# Altium footprint library Power Management Linear Regulator.PcbLib: 77 footprints (part 2 of 5)
Each footprint in its own frame and in the unit in brackets; x right, y up, seen from the top. Pads: shape width x height; smd on the part's side, far side on the other; paste and mask are expansions set on the pad; w line width, h text height; cw(c..) or ccw(c..) is an arc to the next point about the centre after c.
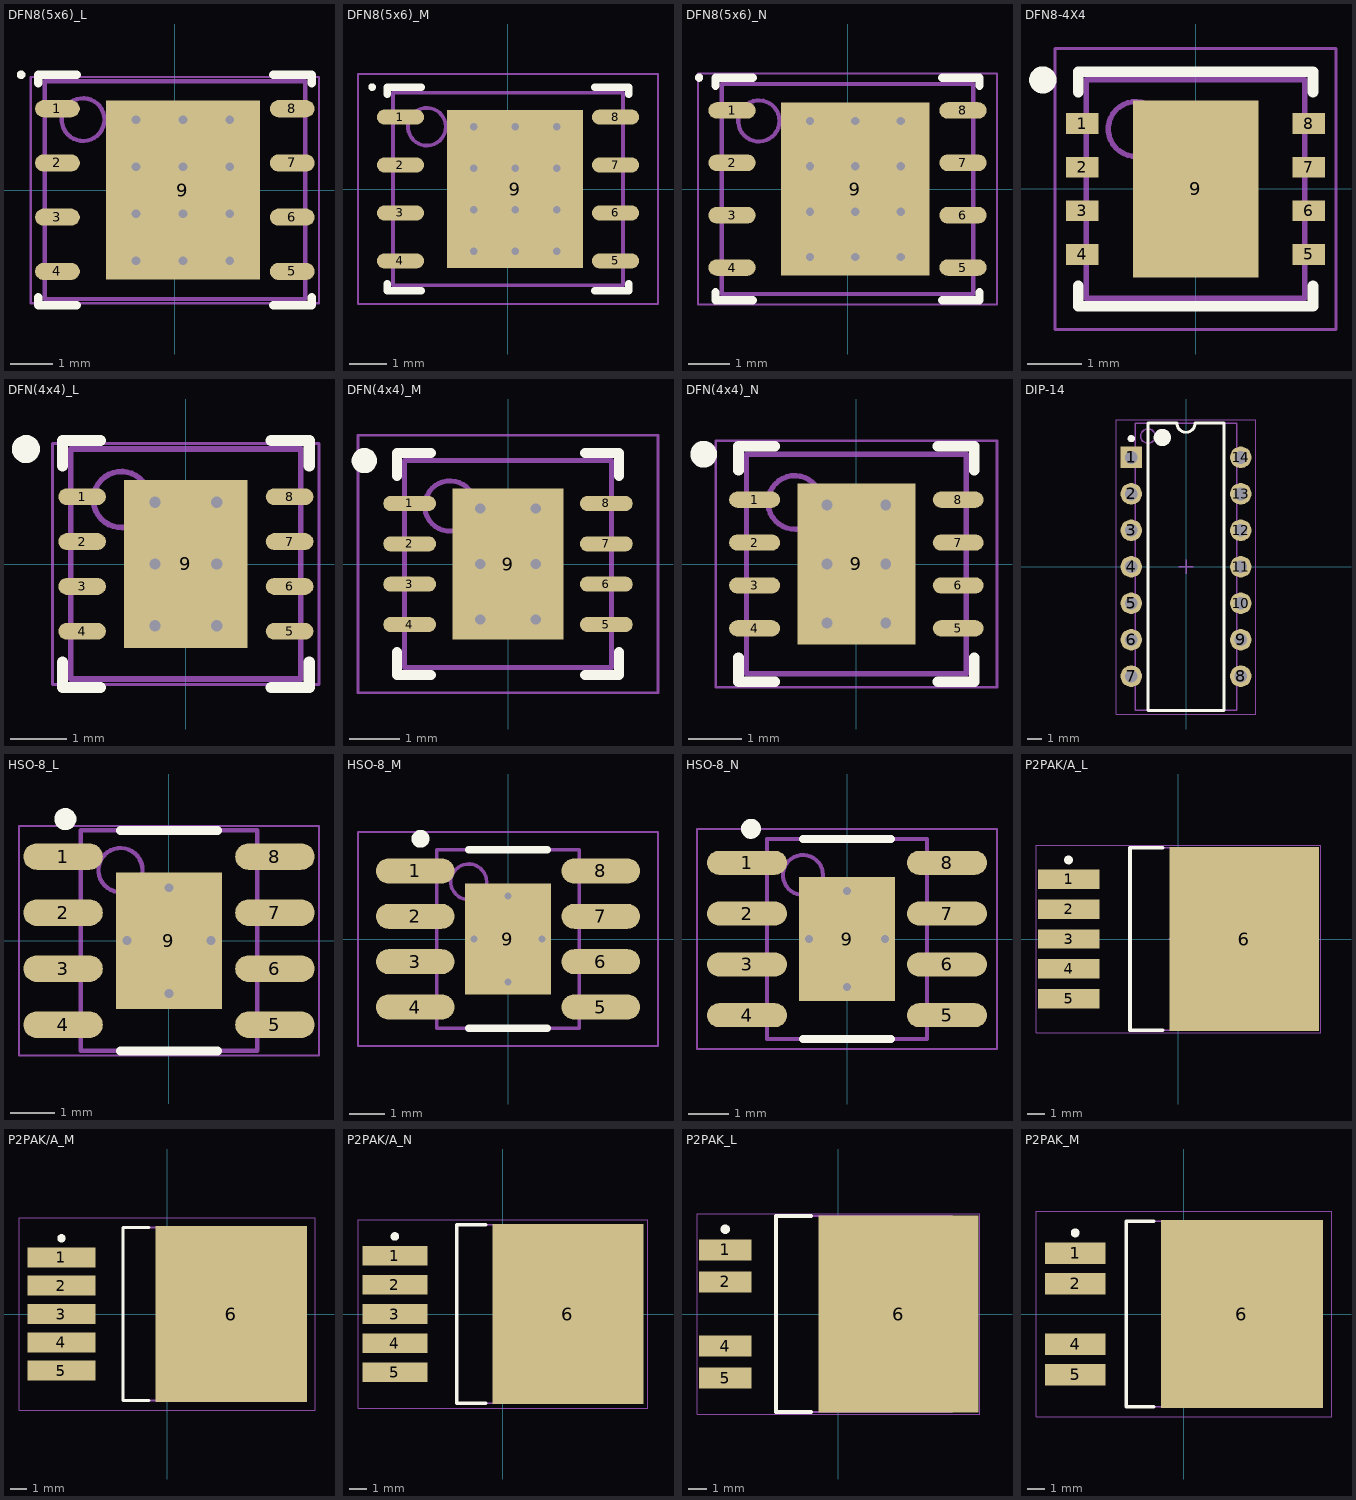
[diagram p1: the footprints below, top view; thin cyan lines are the x and y axes]

## DFN8(5x6)_L [mm] "SON, 8-Leads, Body 5x6mm, Pitch 1.27mm, Thermal Pad 4.2x3.6mm, IPC High Density"
height 1
pads (9):
  oval 1.05x0.4 smd: 1(-2.75,1.905) 2(-2.75,0.635) 3(-2.75,-0.635) 4(-2.75,-1.905) 5(2.75,-1.905) 6(2.75,-0.635) 7(2.75,0.635) 8(2.75,1.905)
  rect 3.6x4.2 smd: 9(0.19,0)
via -0.91,1.65 diameter 0.5 hole 0.2
via 0.19,1.65 diameter 0.5 hole 0.2
via 1.29,1.65 diameter 0.5 hole 0.2
via -0.91,0.55 diameter 0.5 hole 0.2
via 0.19,0.55 diameter 0.5 hole 0.2
via 1.29,0.55 diameter 0.5 hole 0.2
via -0.91,-0.55 diameter 0.5 hole 0.2
via 0.19,-0.55 diameter 0.5 hole 0.2
via 1.29,-0.55 diameter 0.5 hole 0.2
via -0.91,-1.65 diameter 0.5 hole 0.2
via 0.19,-1.65 diameter 0.5 hole 0.2
via 1.29,-1.65 diameter 0.5 hole 0.2
Top Overlay:
  circle w0.1: c-3.6,2.7 r0.05
  lines w0.2: -3.2,-2.505 -3.2,-2.7 -2.3,-2.7 ; -3.2,2.505 -3.2,2.7 -2.3,2.7 ; 2.3,-2.7 3.2,-2.7 3.2,-2.505 ; 2.3,2.7 3.2,2.7 3.2,2.505
Mechanical 13:
  circle w0.1: c-2.15,1.65 r0.5
  lines w0.1: -3.05,-2.55 -3.05,2.55 3.05,2.55 3.05,-2.55 -3.05,-2.55
Mechanical 15:
  lines w0.05: -3.375,-2.65 -3.375,2.65 3.375,2.65 3.375,-2.65 -3.375,-2.65
  lines w0.1: -0.5,0 0.5,0 ; 0,-0.5 0,0.5
3D body: height 1, standoff 0, extent -3.05,-2.55 3.05,2.55

## DFN8(5x6)_M [mm] "SON, 8-Leads, Body 5x6mm, Pitch 1.27mm, Thermal Pad 4.2x3.6mm, IPC Low Density"
height 1
pads (9):
  oval 1.25x0.4 smd: 1(-2.85,1.905) 2(-2.85,0.635) 3(-2.85,-0.635) 4(-2.85,-1.905) 5(2.85,-1.905) 6(2.85,-0.635) 7(2.85,0.635) 8(2.85,1.905)
  rect 3.6x4.2 smd: 9(0.19,0)
via -0.91,1.65 diameter 0.5 hole 0.2
via 0.19,1.65 diameter 0.5 hole 0.2
via 1.29,1.65 diameter 0.5 hole 0.2
via -0.91,0.55 diameter 0.5 hole 0.2
via 0.19,0.55 diameter 0.5 hole 0.2
via 1.29,0.55 diameter 0.5 hole 0.2
via -0.91,-0.55 diameter 0.5 hole 0.2
via 0.19,-0.55 diameter 0.5 hole 0.2
via 1.29,-0.55 diameter 0.5 hole 0.2
via -0.91,-1.65 diameter 0.5 hole 0.2
via 0.19,-1.65 diameter 0.5 hole 0.2
via 1.29,-1.65 diameter 0.5 hole 0.2
Top Overlay:
  circle w0.1: c-3.6,2.7 r0.05
  lines w0.2: -3.2,-2.505 -3.2,-2.7 -2.3,-2.7 ; -3.2,2.505 -3.2,2.7 -2.3,2.7 ; 2.3,-2.7 3.2,-2.7 3.2,-2.505 ; 2.3,2.7 3.2,2.7 3.2,2.505
Mechanical 13:
  circle w0.1: c-2.15,1.65 r0.5
  lines w0.1: -3.05,-2.55 -3.05,2.55 3.05,2.55 3.05,-2.55 -3.05,-2.55
Mechanical 15:
  lines w0.05: -3.975,-3.05 -3.975,3.05 3.975,3.05 3.975,-3.05 -3.975,-3.05
  lines w0.1: -0.5,0 0.5,0 ; 0,-0.5 0,0.5
3D body: height 1, standoff 0, extent -3.05,-2.55 3.05,2.55

## DFN8(5x6)_N [mm] "SON, 8-Leads, Body 5x6mm, Pitch 1.27mm, Thermal Pad 4.2x3.6mm, IPC Medium Density"
height 1
pads (9):
  oval 1.15x0.4 smd: 1(-2.8,1.905) 2(-2.8,0.635) 3(-2.8,-0.635) 4(-2.8,-1.905) 5(2.8,-1.905) 6(2.8,-0.635) 7(2.8,0.635) 8(2.8,1.905)
  rect 3.6x4.2 smd: 9(0.19,0)
via 1.29,-1.65 diameter 0.5 hole 0.2
via 0.19,-1.65 diameter 0.5 hole 0.2
via -0.91,-1.65 diameter 0.5 hole 0.2
via 1.29,-0.55 diameter 0.5 hole 0.2
via 0.19,-0.55 diameter 0.5 hole 0.2
via -0.91,-0.55 diameter 0.5 hole 0.2
via 1.29,0.55 diameter 0.5 hole 0.2
via 0.19,0.55 diameter 0.5 hole 0.2
via -0.91,0.55 diameter 0.5 hole 0.2
via 1.29,1.65 diameter 0.5 hole 0.2
via 0.19,1.65 diameter 0.5 hole 0.2
via -0.91,1.65 diameter 0.5 hole 0.2
Top Overlay:
  circle w0.1: c-3.6,2.7 r0.05
  lines w0.2: -3.2,-2.505 -3.2,-2.7 -2.3,-2.7 ; -3.2,2.505 -3.2,2.7 -2.3,2.7 ; 2.3,-2.7 3.2,-2.7 3.2,-2.505 ; 2.3,2.7 3.2,2.7 3.2,2.505
Mechanical 13:
  circle w0.1: c-2.15,1.65 r0.5
  lines w0.1: -3.05,-2.55 3.05,-2.55 3.05,2.55 -3.05,2.55 -3.05,-2.55
Mechanical 15:
  lines w0.05: -3.625,-2.8 3.625,-2.8 3.625,2.8 -3.625,2.8 -3.625,-2.8
  lines w0.1: -0.5,0 0.5,0 ; 0,-0.5 0,0.5
3D body: height 1, standoff 0, extent -3.05,-2.55 3.05,2.55

## DFN8-4X4 [mm] "DFN, 8-Leads, Body 4.00x4.00mm, Pitch 0.80mm, Thermal Pad 2.30x3.24mm, IPC Medium Density"
height 1
pads (9):
  rect 0.6x0.38 smd: 1(-2.075,1.2) 2(-2.075,0.4) 3(-2.075,-0.4) 4(-2.075,-1.2) 5(2.075,-1.2) 6(2.075,-0.4) 7(2.075,0.4) 8(2.075,1.2)
  rect 2.3x3.24 smd: 9(0,0)
Top Overlay:
  circle w0.25: c-2.8,2 r0.125
  lines w0.2: -2.15,-1.775 -2.15,-2.15 2.15,-2.15 2.15,-1.775 ; -2.15,1.775 -2.15,2.15 2.15,2.15 2.15,1.775
Mechanical 13:
  circle w0.1: c-1.1,1.1 r0.5
  lines w0.1: -2,-2 -2,2 2,2 2,-2 -2,-2
Mechanical 15:
  lines w0.05: -2.575,-2.575 -2.575,2.575 2.575,2.575 2.575,-2.575 -2.575,-2.575
  lines w0.1: -0.5,0 0.5,0 ; 0,-0.5 0,0.5
3D body "DFN8-4X4.step": height 1, standoff 0, extent -2.001,-2 2.001,2

## DFN(4x4)_L [mm] "SON, 8-Leads, Body 4x4mm, Pitch 0.8mm, Thermal Pad 3x2.2mm, IPC High Density"
height 1
pads (9):
  oval 0.85x0.3 smd: 1(-1.85,1.2) 2(-1.85,0.4) 3(-1.85,-0.4) 4(-1.85,-1.2) 5(1.85,-1.2) 6(1.85,-0.4) 7(1.85,0.4) 8(1.85,1.2)
  rect 2.2x3 smd: 9(0,0)
via 0.55,-1.1 diameter 0.5 hole 0.2
via -0.55,-1.1 diameter 0.5 hole 0.2
via 0.55,0 diameter 0.5 hole 0.2
via -0.55,0 diameter 0.5 hole 0.2
via 0.55,1.1 diameter 0.5 hole 0.2
via -0.55,1.1 diameter 0.5 hole 0.2
Top Overlay:
  circle w0.25: c-2.85,2.05 r0.125
  lines w0.2: -2.2,-1.75 -2.2,-2.2 -1.525,-2.2 ; -2.2,1.75 -2.2,2.2 -1.525,2.2 ; 1.525,-2.2 2.2,-2.2 2.2,-1.75 ; 1.525,2.2 2.2,2.2 2.2,1.75
Mechanical 13:
  circle w0.1: c-1.15,1.15 r0.5
  lines w0.1: -2.05,-2.05 2.05,-2.05 2.05,2.05 -2.05,2.05 -2.05,-2.05
Mechanical 15:
  lines w0.05: -2.375,-2.15 2.375,-2.15 2.375,2.15 -2.375,2.15 -2.375,-2.15
  lines w0.1: -0.5,0 0.5,0 ; 0,-0.5 0,0.5
3D body: height 1, standoff 0, extent -2.05,-2.05 2.05,2.05

## DFN(4x4)_M [mm] "SON, 8-Leads, Body 4x4mm, Pitch 0.8mm, Thermal Pad 3x2.2mm, IPC Low Density"
height 1
pads (9):
  oval 1.05x0.3 smd: 1(-1.95,1.2) 2(-1.95,0.4) 3(-1.95,-0.4) 4(-1.95,-1.2) 5(1.95,-1.2) 6(1.95,-0.4) 7(1.95,0.4) 8(1.95,1.2)
  rect 2.2x3 smd: 9(0,0)
via -0.55,1.1 diameter 0.5 hole 0.2
via 0.55,1.1 diameter 0.5 hole 0.2
via -0.55,0 diameter 0.5 hole 0.2
via 0.55,0 diameter 0.5 hole 0.2
via -0.55,-1.1 diameter 0.5 hole 0.2
via 0.55,-1.1 diameter 0.5 hole 0.2
Top Overlay:
  circle w0.25: c-2.85,2.05 r0.125
  lines w0.2: -2.2,-1.75 -2.2,-2.2 -1.525,-2.2 ; -2.2,1.75 -2.2,2.2 -1.525,2.2 ; 1.525,-2.2 2.2,-2.2 2.2,-1.75 ; 1.525,2.2 2.2,2.2 2.2,1.75
Mechanical 13:
  circle w0.1: c-1.15,1.15 r0.5
  lines w0.1: -2.05,-2.05 -2.05,2.05 2.05,2.05 2.05,-2.05 -2.05,-2.05
Mechanical 15:
  lines w0.05: -2.975,-2.55 -2.975,2.55 2.975,2.55 2.975,-2.55 -2.975,-2.55
  lines w0.1: -0.5,0 0.5,0 ; 0,-0.5 0,0.5
3D body: height 1, standoff 0, extent -2.05,-2.05 2.05,2.05

## DFN(4x4)_N [mm] "SON, 8-Leads, Body 4x4mm, Pitch 0.8mm, Thermal Pad 3x2.2mm, IPC Medium Density"
height 1
pads (9):
  oval 0.95x0.3 smd: 1(-1.9,1.2) 2(-1.9,0.4) 3(-1.9,-0.4) 4(-1.9,-1.2) 5(1.9,-1.2) 6(1.9,-0.4) 7(1.9,0.4) 8(1.9,1.2)
  rect 2.2x3 smd: 9(0,0)
via -0.55,1.1 diameter 0.5 hole 0.2
via 0.55,1.1 diameter 0.5 hole 0.2
via -0.55,0 diameter 0.5 hole 0.2
via 0.55,0 diameter 0.5 hole 0.2
via -0.55,-1.1 diameter 0.5 hole 0.2
via 0.55,-1.1 diameter 0.5 hole 0.2
Top Overlay:
  circle w0.25: c-2.85,2.05 r0.125
  lines w0.2: -2.2,-1.75 -2.2,-2.2 -1.525,-2.2 ; -2.2,1.75 -2.2,2.2 -1.525,2.2 ; 1.525,-2.2 2.2,-2.2 2.2,-1.75 ; 1.525,2.2 2.2,2.2 2.2,1.75
Mechanical 13:
  circle w0.1: c-1.15,1.15 r0.5
  lines w0.1: -2.05,-2.05 -2.05,2.05 2.05,2.05 2.05,-2.05 -2.05,-2.05
Mechanical 15:
  lines w0.05: -2.625,-2.3 -2.625,2.3 2.625,2.3 2.625,-2.3 -2.625,-2.3
  lines w0.1: -0.5,0 0.5,0 ; 0,-0.5 0,0.5
3D body: height 1, standoff 0, extent -2.05,-2.05 2.05,2.05

## DIP-14 [mm] "DIP, 14-Leads, Row Spacing 7.62mm, Pitch 2.54mm, Body 19.6x6.6mm"
height 5.1
pads (14):
  rect 1.5x1.5 hole 0.9: 1(-3.81,7.62)
  round 1.5 hole 0.9: 2(-3.81,5.08) 3(-3.81,2.54) 4(-3.81,0) 5(-3.81,-2.54) 6(-3.81,-5.08) 7(-3.81,-7.62) 8(3.81,-7.62) 9(3.81,-5.08) 10(3.81,-2.54) 11(3.81,0) 12(3.81,2.54) 13(3.81,5.08) 14(3.81,7.62)
Top Overlay:
  circle w0.6: c-1.65,9 r0.3
  circle w0.25: c-3.81,8.92 r0.125
  lines w0.2: -2.65,-10 2.65,-10 2.65,10 0.635,10 cw(c0,10) -0.635,10 -2.65,10 -2.65,-10
Mechanical 13:
  circle w0.1: c-2.65,9.1 r0.5
  lines w0.1: -3.55,-10 3.55,-10 3.55,10 -3.55,10 -3.55,-10
Mechanical 15:
  lines w0.05: -4.85,-10.25 4.85,-10.25 4.85,10.25 -4.85,10.25 -4.85,-10.25
  lines w0.1: -0.5,0 0.5,0 ; 0,-0.5 0,0.5
3D body: height 5.1, standoff 0.51, extent -3.55,-10 3.55,10

## HSO-8_L [mm] "SOIC, 8-Leads, Body 4.9x3.9mm, Pitch 1.27mm, Thermal Pad, IPC High Density"
height 1.75
pads (9):
  oval 1.8x0.6 smd: 1(-2.4,1.905) 2(-2.4,0.635) 3(-2.4,-0.635) 4(-2.4,-1.905) 5(2.4,-1.905) 6(2.4,-0.635) 7(2.4,0.635) 8(2.4,1.905)
  rect 2.4x3.1 smd paste-1.2: 9(0,0)
via -0.95,0 diameter 0.5 hole 0.2
via 0,-1.2 diameter 0.5 hole 0.2
via 0,1.2 diameter 0.5 hole 0.2
via 0.95,0 diameter 0.5 hole 0.2
Top Overlay:
  circle w0.25: c-2.35,2.755 r0.125
  lines w0.2: -1.1,-2.5 1.1,-2.5 ; -1.1,2.5 1.1,2.5
Top Paste:
  rectangle: 0.1,-1.45 1.1,-0.1
  region: -0.1,-0.1 -1.1,-0.1 -1.1,-1.45 -0.1,-1.45
  region: -0.1,1.45 -1.1,1.45 -1.1,0.1 -0.1,0.1
  rectangle: 0.1,0.1 1.1,1.45
Mechanical 13:
  circle w0.1: c-1.1,1.6 r0.5
  lines w0.1: -2,-2.5 -2,2.5 2,2.5 2,-2.5 -2,-2.5
Mechanical 15:
  lines w0.05: -3.4,-2.6 -3.4,2.6 3.4,2.6 3.4,-2.6 -3.4,-2.6
  lines w0.1: -0.5,0 0.5,0 ; 0,-0.5 0,0.5
3D body: height 1.75, standoff 0, extent -2,-2.5 2,2.5

## HSO-8_M [mm] "SOIC, 8-Leads, Body 4.9x3.9mm, Pitch 1.27mm, Thermal Pad, IPC Low Density"
height 1.75
pads (9):
  oval 2.2x0.7 smd: 1(-2.6,1.905) 2(-2.6,0.635) 3(-2.6,-0.635) 4(-2.6,-1.905) 5(2.6,-1.905) 6(2.6,-0.635) 7(2.6,0.635) 8(2.6,1.905)
  rect 2.4x3.1 smd paste-1.2: 9(0,0)
via -0.95,0 diameter 0.5 hole 0.2
via 0,-1.2 diameter 0.5 hole 0.2
via 0,1.2 diameter 0.5 hole 0.2
via 0.95,0 diameter 0.5 hole 0.2
Top Overlay:
  circle w0.25: c-2.45,2.805 r0.125
  lines w0.2: -1.1,-2.5 1.1,-2.5 ; -1.1,2.5 1.1,2.5
Top Paste:
  rectangle: 0.1,-1.45 1.1,-0.1
  region: -0.1,-0.1 -1.1,-0.1 -1.1,-1.45 -0.1,-1.45
  region: -0.1,1.45 -1.1,1.45 -1.1,0.1 -0.1,0.1
  rectangle: 0.1,0.1 1.1,1.45
Mechanical 13:
  circle w0.1: c-1.1,1.6 r0.5
  lines w0.1: -2,-2.5 -2,2.5 2,2.5 2,-2.5 -2,-2.5
Mechanical 15:
  lines w0.05: -4.2,-3 -4.2,3 4.2,3 4.2,-3 -4.2,-3
  lines w0.1: -0.5,0 0.5,0 ; 0,-0.5 0,0.5
3D body: height 1.75, standoff 0, extent -2,-2.5 2,2.5

## HSO-8_N [mm] "SOIC, 8-Leads, Body 4.9x3.9mm, Pitch 1.27mm, Thermal Pad, IPC Medium Density"
height 1.75
pads (9):
  oval 2x0.6 smd: 1(-2.5,1.905) 2(-2.5,0.635) 3(-2.5,-0.635) 4(-2.5,-1.905) 5(2.5,-1.905) 6(2.5,-0.635) 7(2.5,0.635) 8(2.5,1.905)
  rect 2.4x3.1 smd paste-1.2: 9(0,0)
via -0.95,0 diameter 0.5 hole 0.2
via 0,-1.2 diameter 0.5 hole 0.2
via 0,1.2 diameter 0.5 hole 0.2
via 0.95,0 diameter 0.5 hole 0.2
Top Overlay:
  circle w0.25: c-2.4,2.755 r0.125
  lines w0.2: -1.1,-2.5 1.1,-2.5 ; -1.1,2.5 1.1,2.5
Top Paste:
  rectangle: 0.1,-1.45 1.1,-0.1
  region: -0.1,-0.1 -1.1,-0.1 -1.1,-1.45 -0.1,-1.45
  region: -0.1,1.45 -1.1,1.45 -1.1,0.1 -0.1,0.1
  rectangle: 0.1,0.1 1.1,1.45
Mechanical 13:
  circle w0.1: c-1.1,1.6 r0.5
  lines w0.1: -2,-2.5 -2,2.5 2,2.5 2,-2.5 -2,-2.5
Mechanical 15:
  lines w0.05: -3.75,-2.75 -3.75,2.75 3.75,2.75 3.75,-2.75 -3.75,-2.75
  lines w0.1: -0.5,0 0.5,0 ; 0,-0.5 0,0.5
3D body: height 1.75, standoff 0, extent -2,-2.5 2,2.5

## P2PAK/A_L [mm] "D2-PAK, 6-Leads, Body 9.2x10.2mm, Pitch 1.7mm, Lead Span 15.4mm, IPC High Density"
height 4.8
pads (6):
  rect 3.5x1.1 smd: 1(-6.25,3.4) 2(-6.25,1.7) 3(-6.25,0) 4(-6.25,-1.7) 5(-6.25,-3.4)
  rect 8.5x10.45 smd: 6(3.75,0)
Top Overlay:
  circle w0.25: c-6.25,4.5 r0.125
  lines w0.2: -0.9,-5.2 -2.75,-5.2 -2.75,5.2 -0.9,5.2
Mechanical 13:
  lines w0.1: -2.75,-5.2 -2.75,5.2 6.6,5.2 6.6,-5.2 -2.75,-5.2
Mechanical 15:
  lines w0.05: -8.1,-5.325 -8.1,5.325 8.1,5.325 8.1,-5.325 -8.1,-5.325
  lines w0.1: -0.5,0 0.5,0 ; 0,-0.5 0,0.5
3D body: height 4.8, standoff 0.03, extent -2.75,-5.2 6.6,5.2

## P2PAK/A_M [mm] "D2-PAK, 6-Leads, Body 9.2x10.2mm, Pitch 1.7mm, Lead Span 15.4mm, IPC Low Density"
height 4.8
pads (6):
  rect 4.1x1.2 smd: 1(-6.35,3.4) 2(-6.35,1.7) 3(-6.35,0) 4(-6.35,-1.7) 5(-6.35,-3.4)
  rect 9.1x10.55 smd: 6(3.85,0)
Top Overlay:
  circle w0.25: c-6.35,4.55 r0.125
  lines w0.2: -1.1,-5.2 -2.65,-5.2 -2.65,5.2 -1.1,5.2
Mechanical 13:
  lines w0.1: -2.65,-5.2 6.7,-5.2 6.7,5.2 -2.65,5.2 -2.65,-5.2
Mechanical 15:
  lines w0.05: -8.9,-5.775 8.9,-5.775 8.9,5.775 -8.9,5.775 -8.9,-5.775
  lines w0.1: -0.5,0 0.5,0 ; 0,-0.5 0,0.5
3D body: height 4.8, standoff 0.03, extent -2.65,-5.2 6.7,5.2

## P2PAK/A_N [mm] "D2-PAK, 6-Leads, Body 9.2x10.2mm, Pitch 1.7mm, Lead Span 15.4mm, IPC Medium Density"
height 4.8
pads (6):
  rect 3.8x1.15 smd: 1(-6.3,3.4) 2(-6.3,1.7) 3(-6.3,0) 4(-6.3,-1.7) 5(-6.3,-3.4)
  rect 8.8x10.5 smd: 6(3.8,0)
Top Overlay:
  circle w0.25: c-6.3,4.525 r0.125
  lines w0.2: -1,-5.2 -2.7,-5.2 -2.7,5.2 -1,5.2
Mechanical 13:
  lines w0.1: -2.7,-5.2 6.65,-5.2 6.65,5.2 -2.7,5.2 -2.7,-5.2
Mechanical 15:
  lines w0.05: -8.45,-5.5 8.45,-5.5 8.45,5.5 -8.45,5.5 -8.45,-5.5
  lines w0.1: -0.5,0 0.5,0 ; 0,-0.5 0,0.5
3D body: height 4.8, standoff 0.03, extent -2.7,-5.2 6.65,5.2

## P2PAK_L [mm] "D2-PAK, 6-Leads, Body 9.2x10.2mm, Pitch 1.7mm, Lead Span 14.1mm, IPC High Density"
height 4.8
pads (5):
  rect 2.8x1.1 smd: 1(-6,3.4) 2(-6,1.7) 4(-6,-1.7) 5(-6,-3.4)
  rect 8.5x10.45 smd: 6(3.2,0)
Top Overlay:
  circle w0.25: c-6,4.5 r0.125
  lines w0.2: -1.45,-5.2 -3.3,-5.2 -3.3,5.2 -1.45,5.2
Mechanical 13:
  lines w0.1: -3.3,-5.2 6.05,-5.2 6.05,5.2 -3.3,5.2 -3.3,-5.2
Mechanical 15:
  lines w0.05: -7.5,-5.325 7.5,-5.325 7.5,5.325 -7.5,5.325 -7.5,-5.325
  lines w0.1: -0.5,0 0.5,0 ; 0,-0.5 0,0.5
3D body: height 4.8, standoff 0.03, extent -3.3,-5.2 6.05,5.2

## P2PAK_M [mm] "D2-PAK, 6-Leads, Body 9.2x10.2mm, Pitch 1.7mm, Lead Span 14.1mm, IPC Low Density"
height 4.8
pads (5):
  rect 3.4x1.2 smd: 1(-6.1,3.4) 2(-6.1,1.7) 4(-6.1,-1.7) 5(-6.1,-3.4)
  rect 9.1x10.55 smd: 6(3.25,0)
Top Overlay:
  circle w0.25: c-6.1,4.55 r0.125
  lines w0.2: -1.7,-5.2 -3.25,-5.2 -3.25,5.2 -1.7,5.2
Mechanical 13:
  lines w0.1: -3.25,-5.2 -3.25,5.2 6.1,5.2 6.1,-5.2 -3.25,-5.2
Mechanical 15:
  lines w0.05: -8.3,-5.775 -8.3,5.775 8.3,5.775 8.3,-5.775 -8.3,-5.775
  lines w0.1: -0.5,0 0.5,0 ; 0,-0.5 0,0.5
3D body: height 4.8, standoff 0.03, extent -3.25,-5.2 6.1,5.2